# Altium footprint library SM_LED_4PLCC_2.2MMX2.0MM.PcbLib: 1 footprints
Each footprint in its own frame and in the unit in brackets; x right, y up, seen from the top. Pads: shape width x height; smd on the part's side, far side on the other; paste and mask are expansions set on the pad; w line width, h text height; cw(c..) or ccw(c..) is an arc to the next point about the centre after c.
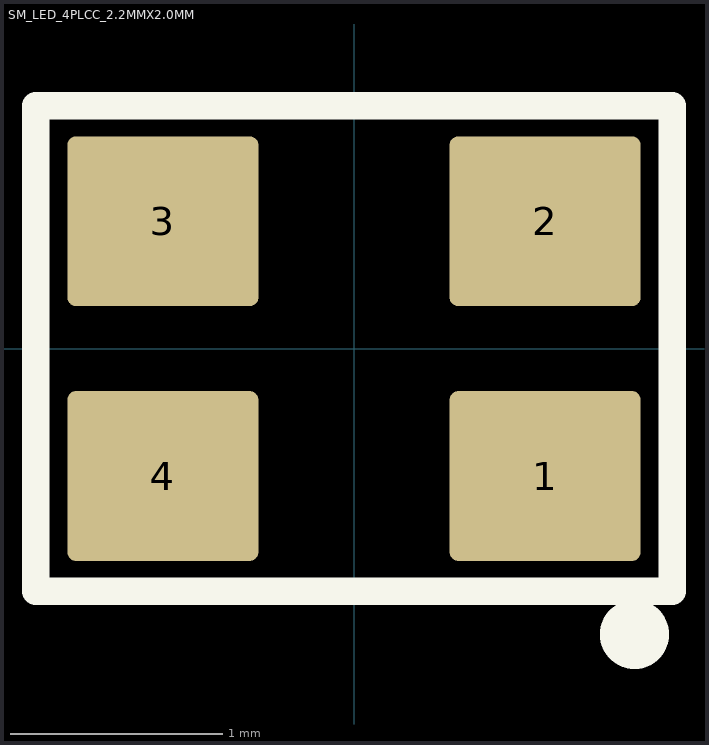
[diagram p0: the footprint, top view; thin cyan lines are the x and y axes]

## SM_LED_4PLCC_2.2MMX2.0MM [mm]
height 1.9
pads (4):
  rrect10% 0.9x0.8 smd: 1(0.9,-0.6) 2(0.9,0.6) 3(-0.9,0.6) 4(-0.9,-0.6)
Top Overlay:
  circle w0.254: c1.321,-1.346 r0.036
  lines w0.13: -1.499,-1.143 1.499,-1.143 1.499,1.143 0.187,1.143 -1.499,1.143 -1.499,-1.143
3D body "ASMB-KTF0-0A-306_RGB_led.STEP": height 1.9, standoff 0, extent -1,-1 1,1